# Altium integrated library ISO8200B.IntLib: 1 symbol
Pins are listed as number, name and electrical type; pins without a type are passive.

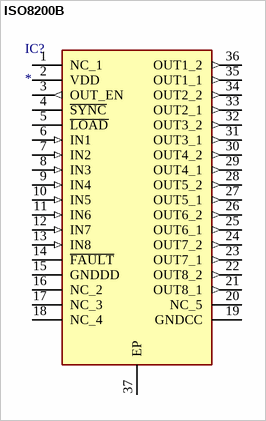
[diagram p0: symbol ISO8200B]

## ISO8200B
designator IC?
Integrated Circuit; Manufacturer_Name: STMicroelectronics; Manufacturer_Part_Number: ISO8200B; Datasheet Link: https://componentsearchengine.com/Datasheets/1/ISO8200B.pdf; Height: 3.6mm; Mouser Part Number: 511-ISO8200B; Mouser Price/Stock: https://www.mouser.com/Search/Refine.aspx?Keyword=511-ISO8200B
footprint SOP65P1420X360-37N
pins: 1 NC_1, 2 VDD (power), 3 OUT_EN (out), 4 ~{SYNC}, 5 ~{LOAD}, 6 IN1 (in), 7 IN2 (in), 8 IN3 (in), 9 IN4 (in), 10 IN5 (in), 11 IN6 (in), 12 IN7 (in), 13 IN8 (in), 14 ~{FAULT}, 15 GNDDD (power), 16 NC_2, 17 NC_3, 18 NC_4, 19 GNDCC (power), 20 NC_5, 21 OUT8_1 (out), 22 OUT8_2 (out), 23 OUT7_1 (out), 24 OUT7_2 (out), 25 OUT6_1 (out), 26 OUT6_2 (out), 27 OUT5_1 (out), 28 OUT5_2 (out), 29 OUT4_1 (out), 30 OUT4_2 (out), 31 OUT3_1 (out), 32 OUT3_2 (out), 33 OUT2_1 (out), 34 OUT2_2 (out), 35 OUT1_1 (out), 36 OUT1_2 (out), 37 EP (power)